# Altium footprint library Gym_rep_counter.PcbLib: 7 footprints
Each footprint in its own frame and in the unit in brackets; x right, y up, seen from the top. Pads: shape width x height; smd on the part's side, far side on the other; paste and mask are expansions set on the pad; w line width, h text height; cw(c..) or ccw(c..) is an arc to the next point about the centre after c.
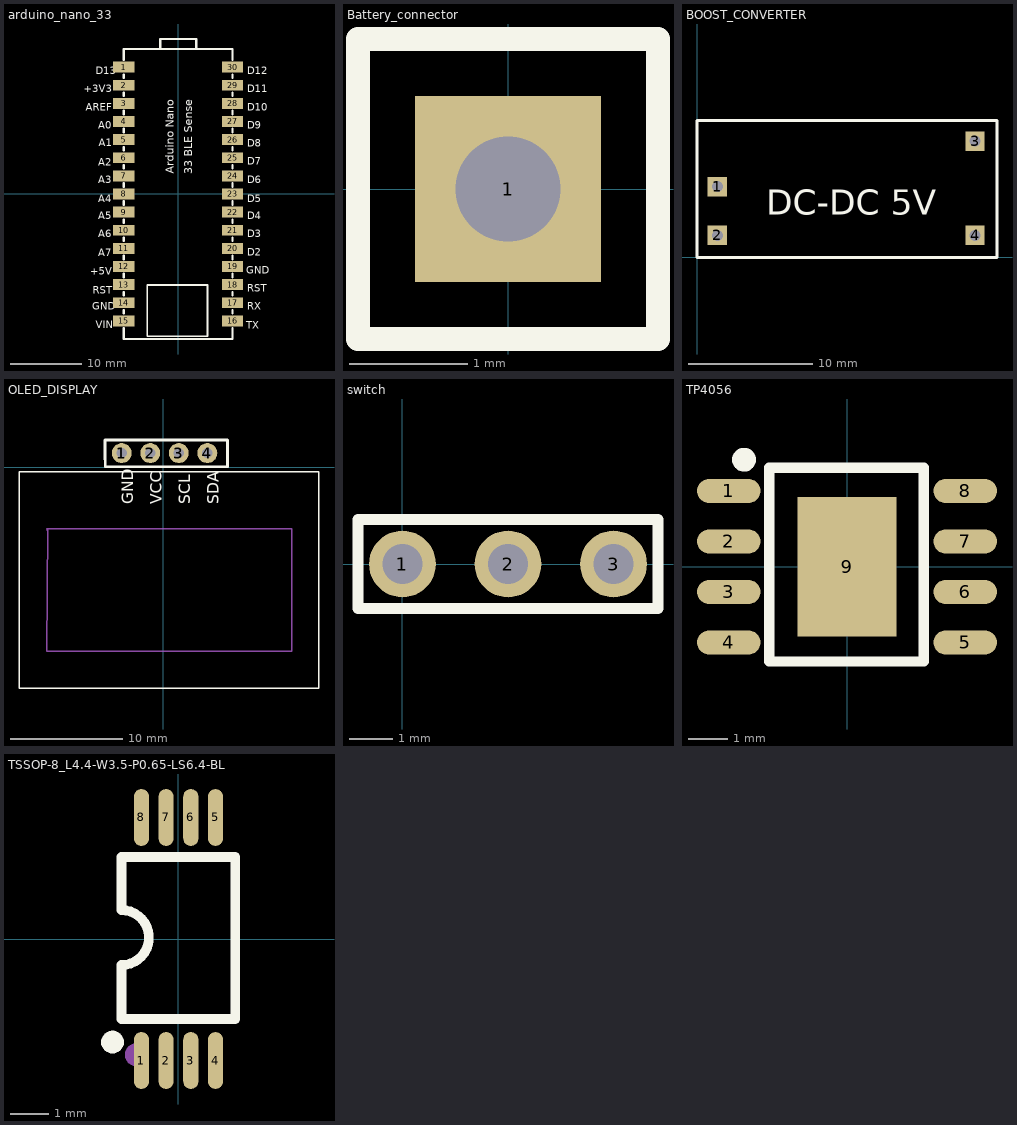
[diagram p0: the footprints below, top view; thin cyan lines are the x and y axes]

## arduino_nano_33 [mil]
pads (30):
  rect 118.11x60 smd paste+0 mask+2: 1(-300,700) 2(-300,600) 3(-300,500) 4(-300,400) 5(-300,300) 6(-300,200) 7(-300,100) 8(-300,0) 9(-300,-100) 10(-300,-200) 11(-300,-300) 12(-300,-400) 13(-300,-500) 14(-300,-600) 15(-300,-700) 16(300,-700) 17(300,-600) 18(300,-500) 19(300,-400) 20(300,-300) 21(300,-200) 22(300,-100) 23(300,0) 24(300,100) 25(300,200) 26(300,300) 27(300,400) 28(300,500) 29(300,600) 30(300,700)
Top Overlay:
  lines w10: -170,-785 162.5,-785 162.5,-502.5 -170,-502.5 -170,-785
  lines w11.81: -300,-740.01 -300,-800 300,-800 300,-740.01 ; -300,-659.99 -300,-640.01 ; -300,-559.99 -300,-540.01 ; -300,-459.99 -300,-440.01 ; -300,-360 -300,-340.01 ; -300,-259.99 -300,-240 ; -300,-160 -300,-140.01 ; -300,-59.99 -300,-40.01 ; -300,40.01 -300,59.99 ; -300,140.01 -300,159.99 ; -300,240.01 -300,259.99 ; -300,340.01 -300,359.99 ; -300,440.01 -300,459.99 ; -300,540.01 -300,560 ; -300,640 -300,659.99 ; -300,740.01 -300,800 300,800 300,740.01 ; -98.8,800 -98.8,855 100,855 100,800 ; 300,-659.99 300,-640.01 ; 300,-559.99 300,-540.01 ; 300,-459.99 300,-440.01 ; 300,-360 300,-340.01 ; 300,-259.99 300,-240 ; 300,-160 300,-140.01 ; 300,-59.99 300,-40.01 ; 300,40.01 300,59.99 ; 300,140.01 300,159.99 ; 300,240.01 300,259.99 ; 300,340.01 300,359.99 ; 300,440.01 300,459.99 ; 300,540.01 300,560 ; 300,640 300,659.99
  text "D13" at -455,660.32 h39.37
  text "+3V3" at -520,560.32 h39.37
  text "AREF" at -510,460.31 h39.37
  text "A0" at -440,360.31 h39.37
  text "A1" at -437,263 h39.37
  text "A2" at -440,155.31 h39.37
  text "A3" at -440,60.31 h39.37
  text "A4" at -440,-44.69 h39.37
  text "A5" at -440,-139.69 h39.37
  text "A6" at -440,-239.69 h39.37
  text "A7" at -440,-344.69 h39.37
  text "+5V" at -485,-444.69 h39.37
  text "RST" at -470,-549.68 h39.37
  text "GND" at -475,-639.68 h39.37
  text "VIN" at -455,-739.68 h39.37
  text "TX" at 375,-744.68 h39.37
  text "RX" at 380,-639.68 h39.37
  text "RST" at 380,-539.68 h39.37
  text "GND" at 375,-439.69 h39.37
  text "D2" at 380,-339.69 h39.37
  text "D3" at 380,-239.69 h39.37
  text "D4" at 380,-139.69 h39.37
  text "D5" at 380,-44.69 h39.37
  text "D6" at 380,60.31 h39.37
  text "D7" at 380,160.31 h39.37
  text "D8" at 380,260.31 h39.37
  text "D9" at 380,360.31 h39.37
  text "D10" at 380,460.31 h39.37
  text "D11" at 380,560.32 h39.37
  text "D12" at 380,660.32 h39.37
  text "Arduino Nano" at -23,113 h43.31
  text "33 BLE Sense" at 77,108 h43.31

## Battery_connector [mil]
pads (1):
  rect 62x62 hole 35 paste-99999 mask+2: 1(0,0)
Top Overlay:
  lines w7.99: 50,-50 50,-25
  lines w8: 50,-50 -50,-50 -50,50 50,50 50,-25

## BOOST_CONVERTER [mil]
pads (4):
  rect 62x62 hole 35 paste-99999 mask+4: 1(65,225) 2(65,70) 3(885,370) 4(885,70)
Top Overlay:
  lines w10: 0,0 955,0 955,435 0,435 0,0
  text "DC-DC 5V" at 220,135 h80

## OLED_DISPLAY [mil]
pads (8):
  round 69.69 hole 36 paste-99999 mask+4: 1(-145,50) 1(-145,50) 2(-45,50) 2(-45,50) 3(55,50) 3(55,50) 4(155,50) 4(155,50)
Top Overlay:
  lines w5: -505,-15 -504.88,-773.26 546.3,-773.26 546.3,-15 -505,-15
  lines w10: -203.27,50.39 -202.88,2.36 225.08,2.36 225.08,49.6 225.08,95.67 -203.27,96.06 -203.27,50.78
  text "SDA" at 194.69,-130 h39.37
  text "SCL" at 94.69,-130 h39.37
  text "VCC" at -5.31,-130 h39.37
  text "GND" at -105.31,-130 h39.37
Mechanical 15:
  lines w5: -405,-225 -407.3,-215 450,-215 450,-645 -407.3,-645 -405,-215

## switch [mil]
pads (3):
  round 60 hole 36 paste-99999 mask+2: 1(0,0) 2(95,0) 3(190,0)
Top Overlay:
  lines w10: -40,-40 230,-40 230,40 -40,40 -40,-40

## TP4056 [mm]
pads (9):
  oval 1.6x0.6 smd paste+0 mask+0.051: 1(-2.972,1.905) 2(-2.972,0.635) 3(-2.972,-0.635) 4(-2.972,-1.905) 5(2.972,-1.905) 6(2.972,-0.635) 7(2.972,0.635) 8(2.972,1.905)
  rect 2.5x3.5 smd paste+0 mask+0.051: 9(0,0)
Top Overlay:
  lines w0.254: -1.956,2.489 -1.956,-2.388 1.93,-2.388 1.93,2.489 -1.93,2.489
  lines w0.3: -2.438,2.69 cw(c-2.588,2.691) -2.438,2.692

## TSSOP-8_L4.4-W3.5-P0.65-LS6.4-BL [mm]
pads (8):
  oval 0.4x1.5 smd paste+0 mask+0.051: 1(-0.975,-3.2) 2(-0.325,-3.2) 3(0.325,-3.2) 4(0.975,-3.2) 5(0.975,3.2) 6(0.325,3.2) 7(-0.325,3.2) 8(-0.975,3.2)
Top Overlay:
  lines w0.254: -1.5,-0.711 -1.5,-2.108 1.5,-2.108 1.5,2.159 ; -1.5,-0.686 ccw(c-1.5,0.038) -1.5,0.762 -1.5,2.159 1.463,2.159
  lines w0.3: -1.737,-2.565 ccw(c-1.736,-2.715) -1.735,-2.565
Mechanical 15:
  circle w0.3: c-1.112,-3.048 r0.15